# EAGLE library part CAT24CXX (library on-semiconductor)
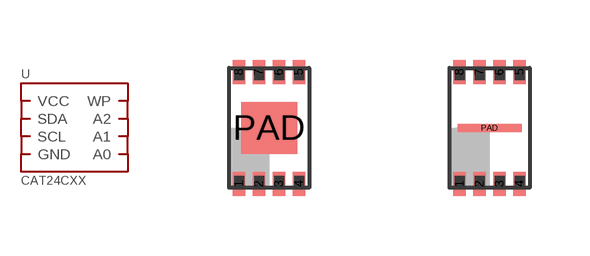
[diagram p9: symbol with the pads of UDFN8-EP; footprints UDFN8-EP, UDFN8]

Designator prefix U

## CAT24CXX.UDFN8-EP  [UDFN8-EP]
1  A0
2  A1
3  A2
4  GND
5  SDA
6  SCL
7  WP
8  VCC
PAD  GND

## CAT24CXX.UDFN8  [UDFN8]
Pads as for UDFN8-EP

## Footprint UDFN8-EP (pad centres in mm)
smd 0.32 x 0.6: 1 -0.75,-1.4; 2 -0.25,-1.4; 3 0.25,-1.4; 4 0.75,-1.4; 5 0.75,1.4; 6 0.25,1.4; 7 -0.25,1.4; 8 -0.75,1.4
smd 1.4 x 1.3: PAD 0,0

## Footprint UDFN8 (pad centres in mm)
smd 0.32 x 0.6: 1 -0.75,-1.4; 2 -0.25,-1.4; 3 0.25,-1.4; 4 0.75,-1.4; 5 0.75,1.4; 6 0.25,1.4; 7 -0.25,1.4; 8 -0.75,1.4
smd 1.6 x 0.2: PAD 0,0